# Altium schematic symbol library QUTMS_MuliplexerLibrary.SchLib: 2 symbols
Pins are listed as number, name and electrical type; pins without a type are passive.

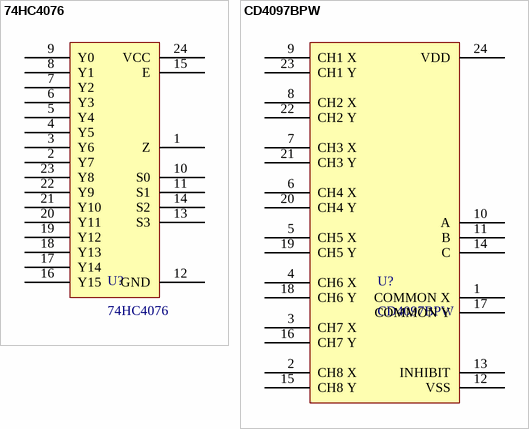
[diagram p0: symbols 74HC4076 to CD4097BPW]

## 74HC4076
designator U?
16:1 Analog Switch (SP16T) 60Ohm, TSSOP24
footprint TSSOP-24
pins: 1 Z, 2 Y7, 3 Y6, 4 Y5, 5 Y4, 6 Y3, 7 Y2, 8 Y1, 9 Y0, 10 S0, 11 S1, 12 GND, 13 S3, 14 S2, 15 E, 16 Y15, 17 Y14, 18 Y13, 19 Y12, 20 Y11, 21 Y10, 22 Y9, 23 Y8, 24 VCC

## CD4097BPW
designator U?
2 Circuit IC Switch 8:1 240Ohm, TSSOP-24
footprint TSSOP-24
pins: 1 COMMON X, 2 CH8 X, 3 CH7 X, 4 CH6 X, 5 CH5 X, 6 CH4 X, 7 CH3 X, 8 CH2 X, 9 CH1 X, 10 A, 11 B, 12 VSS, 13 INHIBIT, 14 C, 15 CH8 Y, 16 CH7 Y, 17 COMMON Y, 18 CH6 Y, 19 CH5 Y, 20 CH4 Y, 21 CH3 Y, 22 CH2 Y, 23 CH1 Y, 24 VDD